# EAGLE library part TLC5947 (library tlc5947)
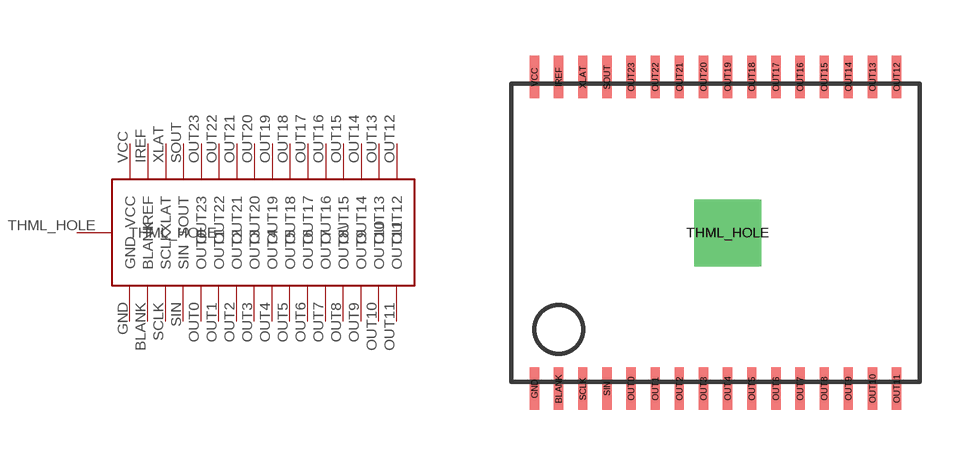
[diagram p0: symbol with the pads of 32_SMD; footprint 32_SMD]

Designator prefix -

## TLC5947  [32_SMD]
BLANK  BLANK
GND  GND
IREF  IREF
OUT0  OUT0
OUT1  OUT1
OUT2  OUT2
OUT3  OUT3
OUT4  OUT4
OUT5  OUT5
OUT6  OUT6
OUT7  OUT7
OUT8  OUT8\
OUT9  OUT9
OUT10  OUT10
OUT11  OUT11
OUT12  OUT12
OUT13  OUT13
OUT14  OUT14
OUT15  OUT15
OUT16  OUT16
OUT17  OUT17
OUT18  OUT18
OUT19  OUT19
OUT20  OUT20
OUT21  OUT21
OUT22  OUT22
OUT23  OUT23
SCLK  SCLK
SIN  SIN
SOUT  SOUT
THML_HOLE  THML_HOLE
VCC  VCC
XLAT  XLAT

## Footprint 32_SMD (pad centres in mm)
smd 0.25 x 1.15: BLANK -4.55,-4.2; GND -5.2,-4.2; IREF -4.55,4.2; OUT0 -2.6,-4.2; OUT1 -1.95,-4.2; OUT2 -1.3,-4.2; OUT3 -0.65,-4.2; OUT4 0,-4.2; OUT5 0.65,-4.2; OUT6 1.3,-4.2; OUT7 1.95,-4.2; OUT8 2.6,-4.2; OUT9 3.25,-4.2; OUT10 3.9,-4.2; OUT11 4.55,-4.2; OUT12 4.55,4.2; OUT13 3.9,4.2; OUT14 3.25,4.2; OUT15 2.6,4.2; OUT16 1.95,4.2; OUT17 1.3,4.2; OUT18 0.65,4.2; OUT19 0,4.2; OUT20 -0.65,4.2; OUT21 -1.3,4.2; OUT22 -1.95,4.2; OUT23 -2.6,4.2; SCLK -3.9,-4.2; SIN -3.25,-4.2; SOUT -3.25,4.2; VCC -5.2,4.2; XLAT -3.9,4.2
drill 1.2 square: THML_HOLE 0,0